# Altium integrated library Microchip Microcontroller 8-Bit PIC18.IntLib: 1070 symbols (part 33 of 43)
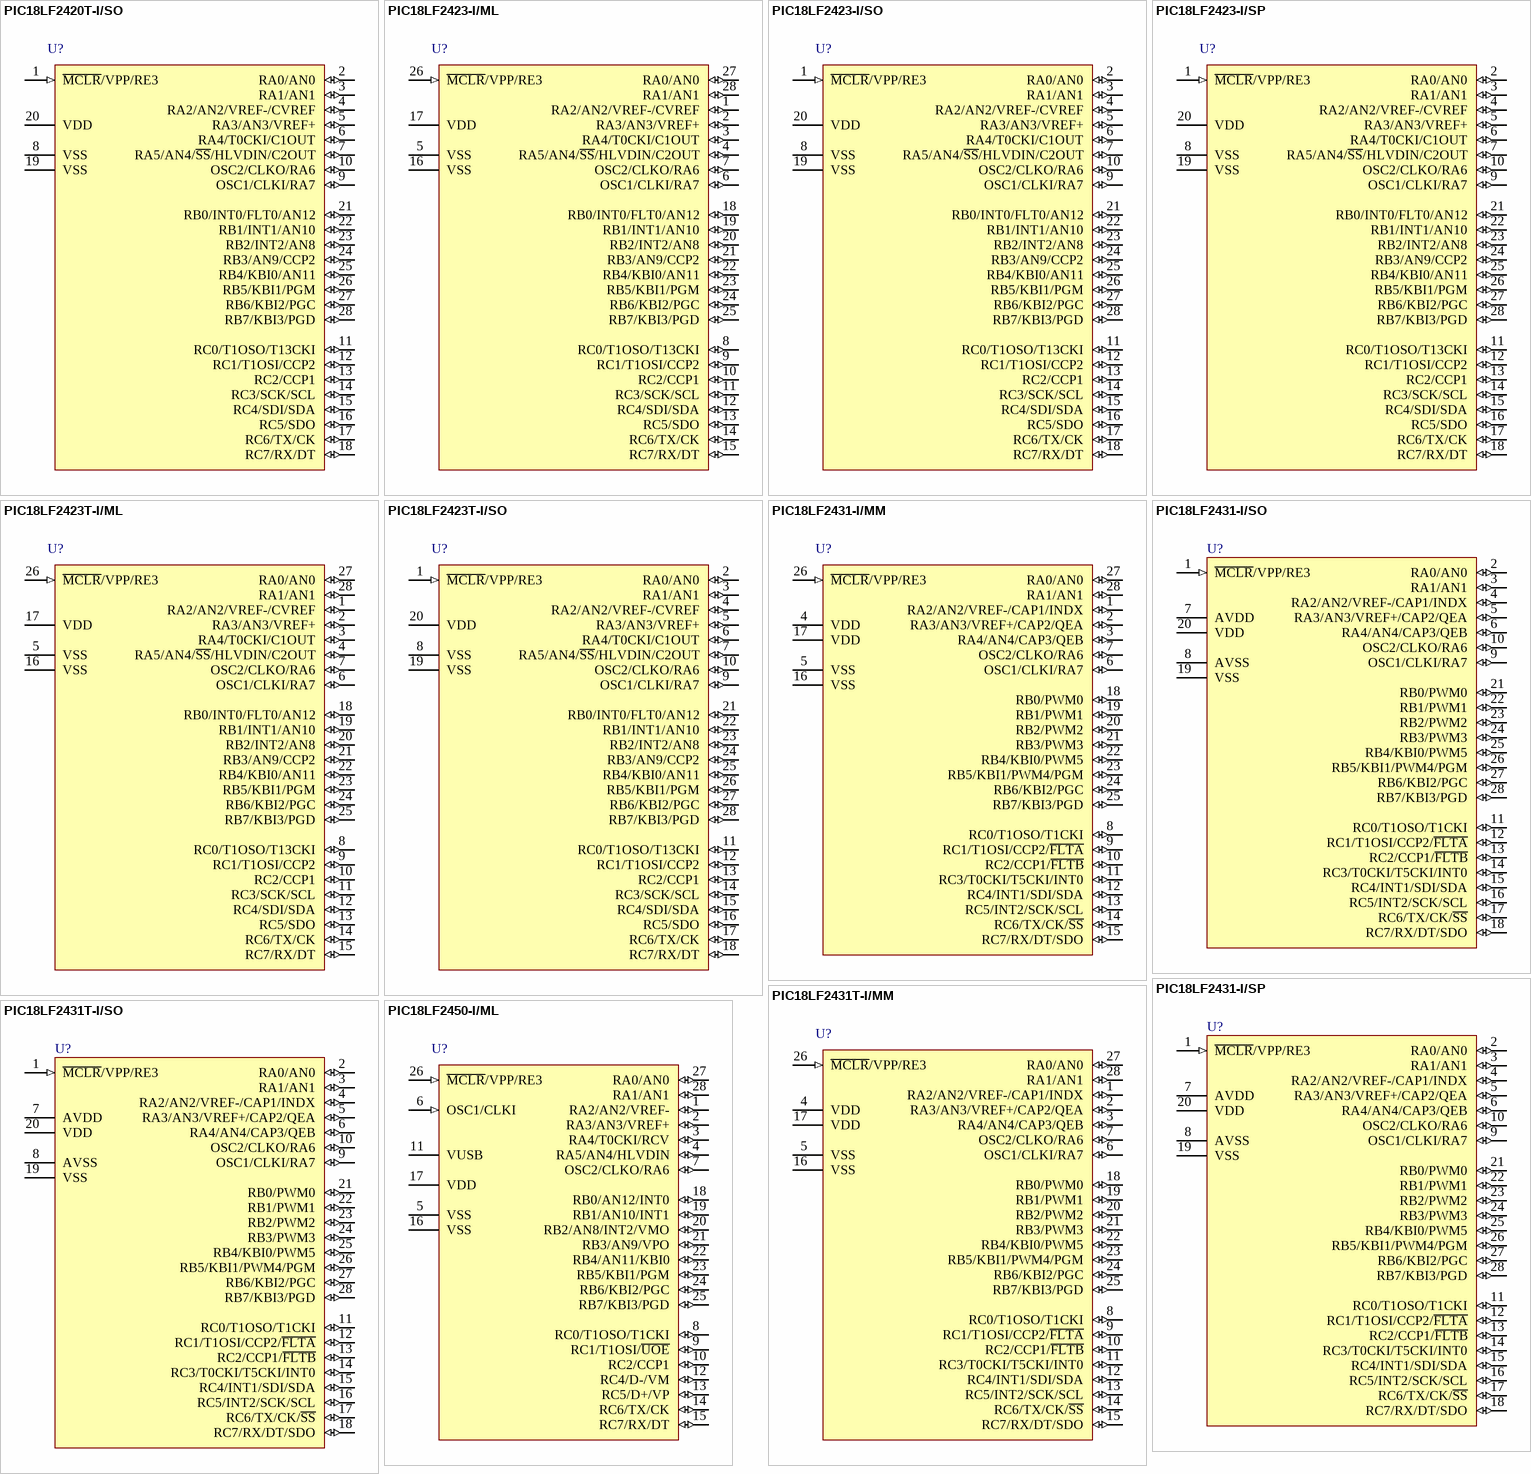
[diagram p156: symbols PIC18LF2420T-I/SO to PIC18LF2450-I/ML]

## PIC18LF2423T-I/SO
designator U?
Enhanced Flash Microcontroller with 12-Bit A/D and nanoWatt Technology, 16K Flash, 28-Pin SOIC, Industrial Temperature Range, Tape and Reel; Published: 29-Jan-2009; DatasheetVersion: revB, Jan-2007; PackageVersion: revAW, Oct-2008; PackageReference: SOIC-SO28; Publisher: Altium Limited; PackageDescription: 28-Lead Plastic Small Outline (SO) - Wide 7.50mm Body [SOIC]; Code_JEDEC: MS-013; ComponentLink1Description: Manufacturer Link; ComponentLink1URL: http://www.microchip.com; ComponentLink2Description: Datasheet; ComponentLink2URL: http://ww1.microchip.com/downloads/en/DeviceDoc/39755B.pdf; ComponentLink3Description: Packaging Specification; ComponentLink3URL: http://ww1.microchip.com/downloads/en/PackagingSpec/00049AW.pdf
footprint SOIC-SO28_N (SOIC, 28-Leads, Body 17.9x7.5mm, Pitch 1.27mm, IPC Medium Density)
footprint SOIC-SO28_L (SOIC, 28-Leads, Body 17.9x7.5mm, Pitch 1.27mm, IPC High Density)
footprint SOIC-SO28_M (SOIC, 28-Leads, Body 17.9x7.5mm, Pitch 1.27mm, IPC Low Density)
pins: 1 ~{MCLR}/VPP/RE3 (in), 2 RA0/AN0 (io), 3 RA1/AN1 (io), 4 RA2/AN2/VREF-/CVREF (io), 5 RA3/AN3/VREF+ (io), 6 RA4/T0CKI/C1OUT (io), 7 RA5/AN4/~{SS}/HLVDIN/C2OUT (io), 8 VSS (power), 9 OSC1/CLKI/RA7 (io), 10 OSC2/CLKO/RA6 (io), 11 RC0/T1OSO/T13CKI (io), 12 RC1/T1OSI/CCP2 (io), 13 RC2/CCP1 (io), 14 RC3/SCK/SCL (io), 15 RC4/SDI/SDA (io), 16 RC5/SDO (io), 17 RC6/TX/CK (io), 18 RC7/RX/DT (io), 19 VSS (power), 20 VDD (power), 21 RB0/INT0/FLT0/AN12 (io), 22 RB1/INT1/AN10 (io), 23 RB2/INT2/AN8 (io), 24 RB3/AN9/CCP2 (io), 25 RB4/KBI0/AN11 (io), 26 RB5/KBI1/PGM (io), 27 RB6/KBI2/PGC (io), 28 RB7/KBI3/PGD (io)

## PIC18LF2431-I/MM
designator U?
Enhanced Flash Microcontroller with nanoWatt Technology, High Performance PWM and A/D, 16K Flash, 28-Pin QFN, Industrial Temperature Range; Published: 29-Jan-2009; DatasheetVersion: revC, Jul-2007; PackageVersion: revAW, Oct-2008; PackageReference: QFNS-MM28; Publisher: Altium Limited; PackageDescription: 28-Lead Plastic Quad Flat, No Lead Package (MM) - 6x6x0.9 mm Body [QFN-S] with 0.40 mm Contact Length; ComponentLink1Description: Manufacturer Link; ComponentLink1URL: http://www.microchip.com; ComponentLink2Description: Datasheet; ComponentLink2URL: http://ww1.microchip.com/downloads/en/DeviceDoc/39616C.pdf; ComponentLink3Description: Packaging Specification; ComponentLink3URL: http://ww1.microchip.com/downloads/en/PackagingSpec/00049AW.pdf
footprint QFNS-MM28_N (QFN, 28-Leads, Body 6x6 mm, Pitch 0.65mm, IPC Medium Density)
footprint QFNS-MM28_L (QFN, 28-Leads, Body 6x6 mm, Pitch 0.65mm, IPC High Density)
footprint QFNS-MM28_M (QFN, 28-Leads, Body 6x6 mm, Pitch 0.65mm, IPC Low Density)
pins: 1 RA2/AN2/VREF-/CAP1/INDX (io), 2 RA3/AN3/VREF+/CAP2/QEA (io), 3 RA4/AN4/CAP3/QEB (io), 4 VDD (power), 5 VSS (power), 6 OSC1/CLKI/RA7 (io), 7 OSC2/CLKO/RA6 (io), 8 RC0/T1OSO/T1CKI (io), 9 RC1/T1OSI/CCP2/~{FLTA} (io), 10 RC2/CCP1/~{FLTB} (io), 11 RC3/T0CKI/T5CKI/INT0 (io), 12 RC4/INT1/SDI/SDA (io), 13 RC5/INT2/SCK/SCL (io), 14 RC6/TX/CK/~{SS} (io), 15 RC7/RX/DT/SDO (io), 16 VSS (power), 17 VDD (power), 18 RB0/PWM0 (io), 19 RB1/PWM1 (io), 20 RB2/PWM2 (io), 21 RB3/PWM3 (io), 22 RB4/KBI0/PWM5 (io), 23 RB5/KBI1/PWM4/PGM (io), 24 RB6/KBI2/PGC (io), 25 RB7/KBI3/PGD (io), 26 ~{MCLR}/VPP/RE3 (in), 27 RA0/AN0 (io), 28 RA1/AN1 (io)

## PIC18LF2431-I/SO
designator U?
Enhanced Flash Microcontroller with nanoWatt Technology, High Performance PWM and A/D, 16K Flash, 28-Pin SOIC, Industrial Temperature; Published: 11-Oct-2004; LatestRevisionDate: 29-Jan-2009; LatestRevisionNote: Sch. layout revised. 3D Model Removed.; DatasheetVersion: revC, Jul-2007; PackageVersion: revAW, Oct-2008; PackageReference: SOIC-SO28; Publisher: Altium Limited; PackageDescription: 28-Lead Plastic Small Outline (SO) - Wide 7.50mm Body [SOIC]; Code_JEDEC: MS-013; ComponentLink1Description: Manufacturer Link; ComponentLink1URL: http://www.microchip.com; ComponentLink2Description: Datasheet; ComponentLink2URL: http://ww1.microchip.com/downloads/en/DeviceDoc/39616C.pdf; ComponentLink3Description: Packaging Specification; ComponentLink3URL: http://ww1.microchip.com/downloads/en/PackagingSpec/00049AW.pdf
footprint SOIC-SO28_N (SOIC, 28-Leads, Body 17.9x7.5mm, Pitch 1.27mm, IPC Medium Density)
footprint SOIC-SO28_L (SOIC, 28-Leads, Body 17.9x7.5mm, Pitch 1.27mm, IPC High Density)
footprint SOIC-SO28_M (SOIC, 28-Leads, Body 17.9x7.5mm, Pitch 1.27mm, IPC Low Density)
pins: 1 ~{MCLR}/VPP/RE3 (in), 2 RA0/AN0 (io), 3 RA1/AN1 (io), 4 RA2/AN2/VREF-/CAP1/INDX (io), 5 RA3/AN3/VREF+/CAP2/QEA (io), 6 RA4/AN4/CAP3/QEB (io), 7 AVDD (power), 8 AVSS (power), 9 OSC1/CLKI/RA7 (io), 10 OSC2/CLKO/RA6 (io), 11 RC0/T1OSO/T1CKI (io), 12 RC1/T1OSI/CCP2/~{FLTA} (io), 13 RC2/CCP1/~{FLTB} (io), 14 RC3/T0CKI/T5CKI/INT0 (io), 15 RC4/INT1/SDI/SDA (io), 16 RC5/INT2/SCK/SCL (io), 17 RC6/TX/CK/~{SS} (io), 18 RC7/RX/DT/SDO (io), 19 VSS (power), 20 VDD (power), 21 RB0/PWM0 (io), 22 RB1/PWM1 (io), 23 RB2/PWM2 (io), 24 RB3/PWM3 (io), 25 RB4/KBI0/PWM5 (io), 26 RB5/KBI1/PWM4/PGM (io), 27 RB6/KBI2/PGC (io), 28 RB7/KBI3/PGD (io)

## PIC18LF2431-I/SP
designator U?
Enhanced Flash Microcontroller with nanoWatt Technology, High Performance PWM and A/D, 16K Flash, 28-Pin SPDIP, Industrial Temperature; Published: 11-Oct-2004; LatestRevisionDate: 29-Jan-2009; LatestRevisionNote: Sch. layout revised. 3D Model Removed.; DatasheetVersion: revC, Jul-2007; PackageVersion: revAW, Oct-2008; PackageReference: SPDIP300-SP28; Publisher: Altium Limited; PackageDescription: 28-Lead Skinny Plastic Dual In-Line (SP) - 300 mil Body [SPDIP]; ComponentLink1Description: Manufacturer Link; ComponentLink1URL: http://www.microchip.com; ComponentLink2Description: Datasheet; ComponentLink2URL: http://ww1.microchip.com/downloads/en/DeviceDoc/39616C.pdf; ComponentLink3Description: Packaging Specification; ComponentLink3URL: http://ww1.microchip.com/downloads/en/PackagingSpec/00049AW.pdf
footprint SPDIP300-SP28 (DIP, 28-Leads, Row Spacing 7.62mm, Pitch 2.54mm, Body 34.9x6.8mm)
pins: 1 ~{MCLR}/VPP/RE3 (in), 2 RA0/AN0 (io), 3 RA1/AN1 (io), 4 RA2/AN2/VREF-/CAP1/INDX (io), 5 RA3/AN3/VREF+/CAP2/QEA (io), 6 RA4/AN4/CAP3/QEB (io), 7 AVDD (power), 8 AVSS (power), 9 OSC1/CLKI/RA7 (io), 10 OSC2/CLKO/RA6 (io), 11 RC0/T1OSO/T1CKI (io), 12 RC1/T1OSI/CCP2/~{FLTA} (io), 13 RC2/CCP1/~{FLTB} (io), 14 RC3/T0CKI/T5CKI/INT0 (io), 15 RC4/INT1/SDI/SDA (io), 16 RC5/INT2/SCK/SCL (io), 17 RC6/TX/CK/~{SS} (io), 18 RC7/RX/DT/SDO (io), 19 VSS (power), 20 VDD (power), 21 RB0/PWM0 (io), 22 RB1/PWM1 (io), 23 RB2/PWM2 (io), 24 RB3/PWM3 (io), 25 RB4/KBI0/PWM5 (io), 26 RB5/KBI1/PWM4/PGM (io), 27 RB6/KBI2/PGC (io), 28 RB7/KBI3/PGD (io)

## PIC18LF2431T-I/MM
designator U?
Enhanced Flash Microcontroller with nanoWatt Technology, High Performance PWM and A/D, 16K Flash, 28-Pin QFN, Industrial Temperature Range, Tape and Reel; Published: 29-Jan-2009; DatasheetVersion: revC, Jul-2007; PackageVersion: revAW, Oct-2008; PackageReference: QFNS-MM28; Publisher: Altium Limited; PackageDescription: 28-Lead Plastic Quad Flat, No Lead Package (MM) - 6x6x0.9 mm Body [QFN-S] with 0.40 mm Contact Length; ComponentLink1Description: Manufacturer Link; ComponentLink1URL: http://www.microchip.com; ComponentLink2Description: Datasheet; ComponentLink2URL: http://ww1.microchip.com/downloads/en/DeviceDoc/39616C.pdf; ComponentLink3Description: Packaging Specification; ComponentLink3URL: http://ww1.microchip.com/downloads/en/PackagingSpec/00049AW.pdf
footprint QFNS-MM28_N (QFN, 28-Leads, Body 6x6 mm, Pitch 0.65mm, IPC Medium Density)
footprint QFNS-MM28_L (QFN, 28-Leads, Body 6x6 mm, Pitch 0.65mm, IPC High Density)
footprint QFNS-MM28_M (QFN, 28-Leads, Body 6x6 mm, Pitch 0.65mm, IPC Low Density)
pins: 1 RA2/AN2/VREF-/CAP1/INDX (io), 2 RA3/AN3/VREF+/CAP2/QEA (io), 3 RA4/AN4/CAP3/QEB (io), 4 VDD (power), 5 VSS (power), 6 OSC1/CLKI/RA7 (io), 7 OSC2/CLKO/RA6 (io), 8 RC0/T1OSO/T1CKI (io), 9 RC1/T1OSI/CCP2/~{FLTA} (io), 10 RC2/CCP1/~{FLTB} (io), 11 RC3/T0CKI/T5CKI/INT0 (io), 12 RC4/INT1/SDI/SDA (io), 13 RC5/INT2/SCK/SCL (io), 14 RC6/TX/CK/~{SS} (io), 15 RC7/RX/DT/SDO (io), 16 VSS (power), 17 VDD (power), 18 RB0/PWM0 (io), 19 RB1/PWM1 (io), 20 RB2/PWM2 (io), 21 RB3/PWM3 (io), 22 RB4/KBI0/PWM5 (io), 23 RB5/KBI1/PWM4/PGM (io), 24 RB6/KBI2/PGC (io), 25 RB7/KBI3/PGD (io), 26 ~{MCLR}/VPP/RE3 (in), 27 RA0/AN0 (io), 28 RA1/AN1 (io)

## PIC18LF2431T-I/SO
designator U?
Enhanced Flash Microcontroller with nanoWatt Technology, High Performance PWM and A/D, 16K Flash, 28-Pin SOIC, Industrial Temperature, Tape and Reel; Published: 11-Oct-2004; LatestRevisionDate: 29-Jan-2009; LatestRevisionNote: Sch. layout revised. 3D Model Removed.; DatasheetVersion: revC, Jul-2007; PackageVersion: revAW, Oct-2008; PackageReference: SOIC-SO28; Publisher: Altium Limited; PackageDescription: 28-Lead Plastic Small Outline (SO) - Wide 7.50mm Body [SOIC]; Code_JEDEC: MS-013; ComponentLink1Description: Manufacturer Link; ComponentLink1URL: http://www.microchip.com; ComponentLink2Description: Datasheet; ComponentLink2URL: http://ww1.microchip.com/downloads/en/DeviceDoc/39616C.pdf; ComponentLink3Description: Packaging Specification; ComponentLink3URL: http://ww1.microchip.com/downloads/en/PackagingSpec/00049AW.pdf
footprint SOIC-SO28_N (SOIC, 28-Leads, Body 17.9x7.5mm, Pitch 1.27mm, IPC Medium Density)
footprint SOIC-SO28_L (SOIC, 28-Leads, Body 17.9x7.5mm, Pitch 1.27mm, IPC High Density)
footprint SOIC-SO28_M (SOIC, 28-Leads, Body 17.9x7.5mm, Pitch 1.27mm, IPC Low Density)
pins: 1 ~{MCLR}/VPP/RE3 (in), 2 RA0/AN0 (io), 3 RA1/AN1 (io), 4 RA2/AN2/VREF-/CAP1/INDX (io), 5 RA3/AN3/VREF+/CAP2/QEA (io), 6 RA4/AN4/CAP3/QEB (io), 7 AVDD (power), 8 AVSS (power), 9 OSC1/CLKI/RA7 (io), 10 OSC2/CLKO/RA6 (io), 11 RC0/T1OSO/T1CKI (io), 12 RC1/T1OSI/CCP2/~{FLTA} (io), 13 RC2/CCP1/~{FLTB} (io), 14 RC3/T0CKI/T5CKI/INT0 (io), 15 RC4/INT1/SDI/SDA (io), 16 RC5/INT2/SCK/SCL (io), 17 RC6/TX/CK/~{SS} (io), 18 RC7/RX/DT/SDO (io), 19 VSS (power), 20 VDD (power), 21 RB0/PWM0 (io), 22 RB1/PWM1 (io), 23 RB2/PWM2 (io), 24 RB3/PWM3 (io), 25 RB4/KBI0/PWM5 (io), 26 RB5/KBI1/PWM4/PGM (io), 27 RB6/KBI2/PGC (io), 28 RB7/KBI3/PGD (io)

## PIC18LF2450-I/ML
designator U?
High Performance, 12 MIPS, Enhanced Flash, USB Microcontroller with nanoWatt Technology, 16K Flash, 28-Pin QFN, Industrial Temperature Range; Published: 29-Jan-2009; DatasheetVersion: revD, Mar-2008; PackageVersion: revAW, Oct-2008; PackageReference: QFN-ML28; Publisher: Altium Limited; PackageDescription: 28-Lead Plastic Quad Flat, No Lead Package (ML) - 6x6 mm Body [QFN] with 0.55 mm Contact Length; Code_JEDEC: MO-220; Code_IPC: QFN65P600X600-28V; ComponentLink1Description: Manufacturer Link; ComponentLink1URL: http://www.microchip.com; ComponentLink2Description: Datasheet; ComponentLink2URL: http://ww1.microchip.com/downloads/en/DeviceDoc/39760d.pdf; ComponentLink3Description: Packaging Specification; ComponentLink3URL: http://ww1.microchip.com/downloads/en/PackagingSpec/00049AW.pdf
footprint QFN-ML28_N (QFN, 28-Leads, Body 6x6 mm, Pitch 0.65mm, IPC Medium Density)
footprint QFN-ML28_L (QFN, 28-Leads, Body 6x6 mm, Pitch 0.65mm, IPC High Density)
footprint QFN-ML28_M (QFN, 28-Leads, Body 6x6 mm, Pitch 0.65mm, IPC Low Density)
pins: 1 RA2/AN2/VREF- (io), 2 RA3/AN3/VREF+ (io), 3 RA4/T0CKI/RCV (io), 4 RA5/AN4/HLVDIN (io), 5 VSS (power), 6 OSC1/CLKI (in), 7 OSC2/CLKO/RA6 (io), 8 RC0/T1OSO/T1CKI (io), 9 RC1/T1OSI/~{UOE} (io), 10 RC2/CCP1 (io), 11 VUSB (power), 12 RC4/D-/VM (io), 13 RC5/D+/VP (io), 14 RC6/TX/CK (io), 15 RC7/RX/DT (io), 16 VSS (power), 17 VDD (power), 18 RB0/AN12/INT0 (io), 19 RB1/AN10/INT1 (io), 20 RB2/AN8/INT2/VMO (io), 21 RB3/AN9/VPO (io), 22 RB4/AN11/KBI0 (io), 23 RB5/KBI1/PGM (io), 24 RB6/KBI2/PGC (io), 25 RB7/KBI3/PGD (io), 26 ~{MCLR}/VPP/RE3 (in), 27 RA0/AN0 (io), 28 RA1/AN1 (io)

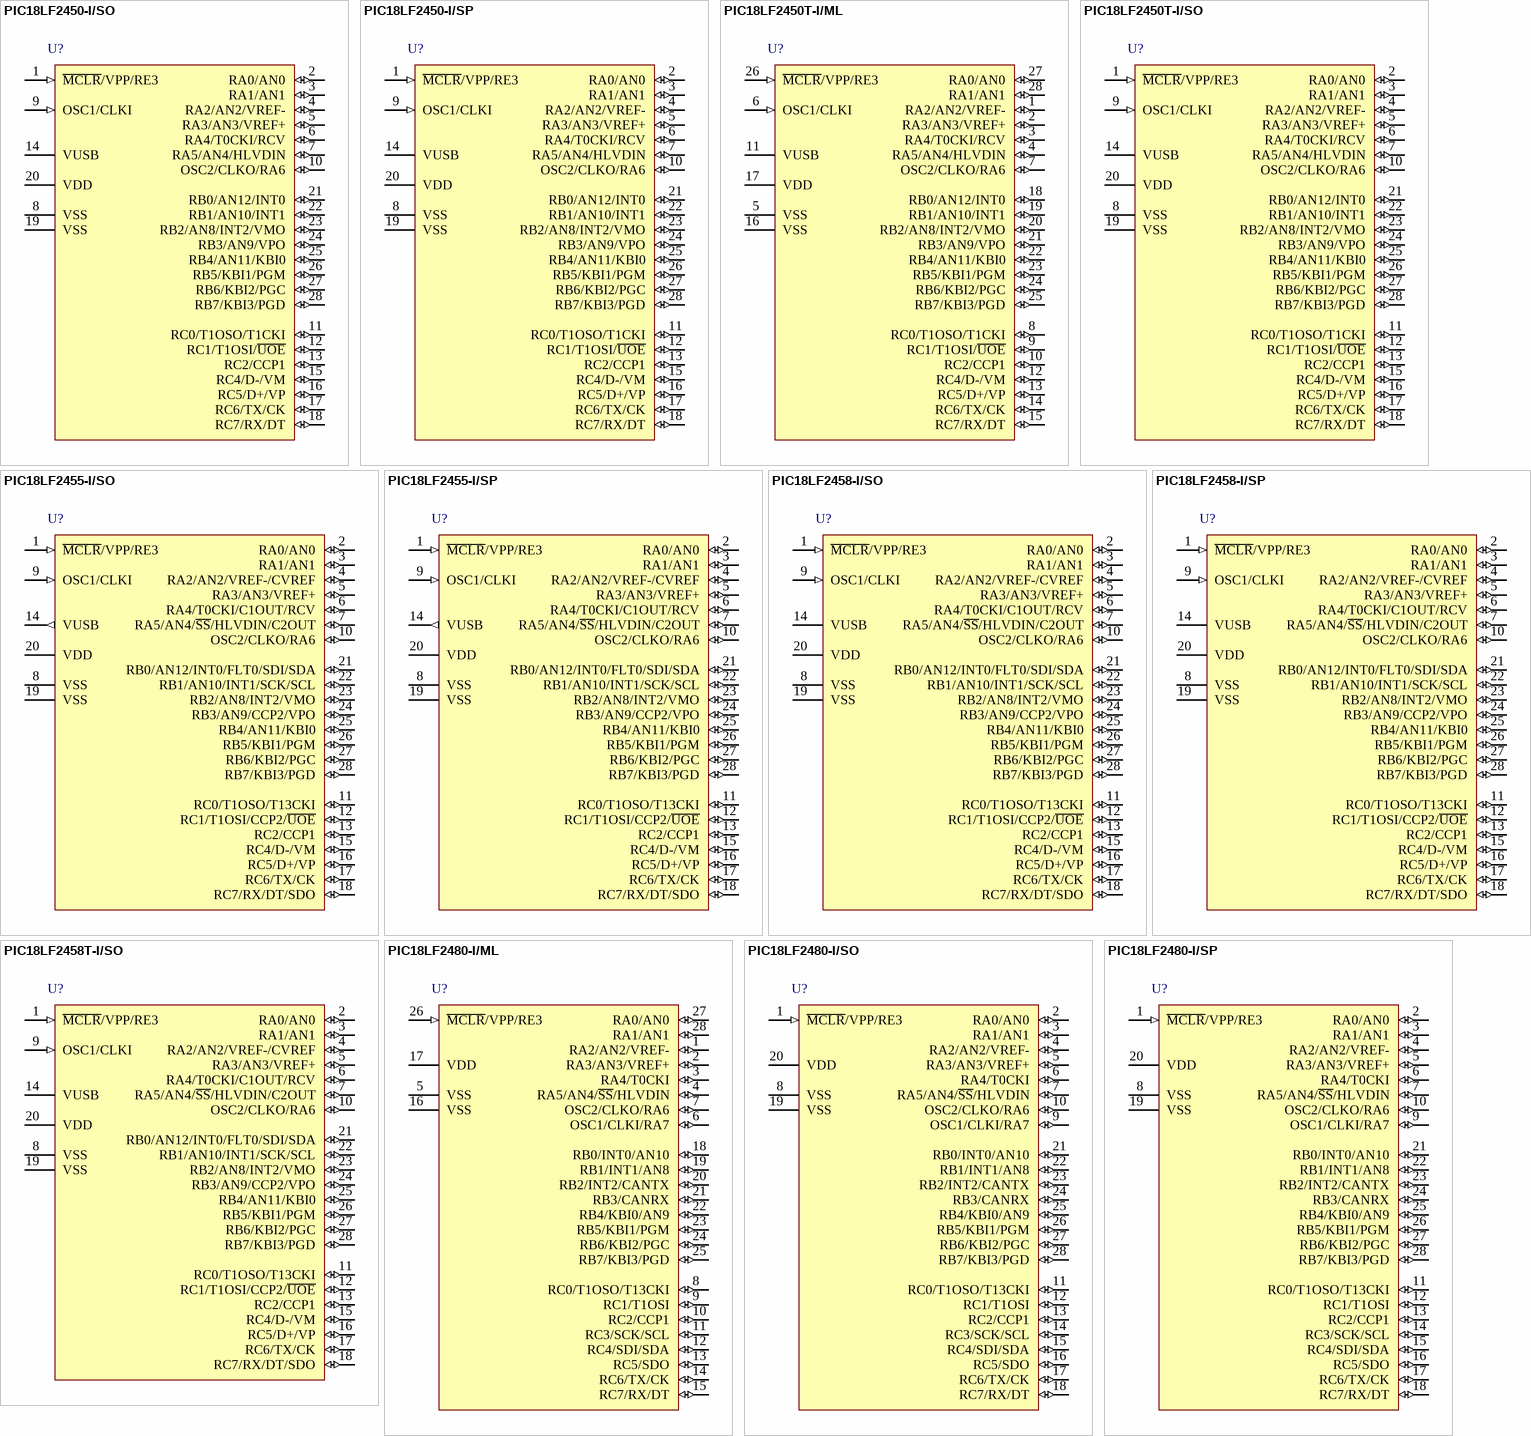
[diagram p96: symbols PIC18LF2450-I/SO to PIC18LF2480-I/SP]

## PIC18LF2450-I/SO
designator U?
High Performance, 12 MIPS, Enhanced Flash, USB Microcontroller with nanoWatt Technology, 16K Flash, 28-Pin SOIC, Industrial Temperature Range; Published: 29-Jan-2009; DatasheetVersion: revD, Mar-2008; PackageVersion: revAW, Oct-2008; PackageReference: SOIC-SO28; Publisher: Altium Limited; PackageDescription: 28-Lead Plastic Small Outline (SO) - Wide 7.50mm Body [SOIC]; Code_JEDEC: MS-013; ComponentLink1Description: Manufacturer Link; ComponentLink1URL: http://www.microchip.com; ComponentLink2Description: Datasheet; ComponentLink2URL: http://ww1.microchip.com/downloads/en/DeviceDoc/39760d.pdf; ComponentLink3Description: Packaging Specification; ComponentLink3URL: http://ww1.microchip.com/downloads/en/PackagingSpec/00049AW.pdf
footprint SOIC-SO28_N (SOIC, 28-Leads, Body 17.9x7.5mm, Pitch 1.27mm, IPC Medium Density)
footprint SOIC-SO28_L (SOIC, 28-Leads, Body 17.9x7.5mm, Pitch 1.27mm, IPC High Density)
footprint SOIC-SO28_M (SOIC, 28-Leads, Body 17.9x7.5mm, Pitch 1.27mm, IPC Low Density)
pins: 1 ~{MCLR}/VPP/RE3 (in), 2 RA0/AN0 (io), 3 RA1/AN1 (io), 4 RA2/AN2/VREF- (io), 5 RA3/AN3/VREF+ (io), 6 RA4/T0CKI/RCV (io), 7 RA5/AN4/HLVDIN (io), 8 VSS (power), 9 OSC1/CLKI (in), 10 OSC2/CLKO/RA6 (io), 11 RC0/T1OSO/T1CKI (io), 12 RC1/T1OSI/~{UOE} (io), 13 RC2/CCP1 (io), 14 VUSB (power), 15 RC4/D-/VM (io), 16 RC5/D+/VP (io), 17 RC6/TX/CK (io), 18 RC7/RX/DT (io), 19 VSS (power), 20 VDD (power), 21 RB0/AN12/INT0 (io), 22 RB1/AN10/INT1 (io), 23 RB2/AN8/INT2/VMO (io), 24 RB3/AN9/VPO (io), 25 RB4/AN11/KBI0 (io), 26 RB5/KBI1/PGM (io), 27 RB6/KBI2/PGC (io), 28 RB7/KBI3/PGD (io)

## PIC18LF2450-I/SP
designator U?
High Performance, 12 MIPS, Enhanced Flash, USB Microcontroller with nanoWatt Technology, 16K Flash, 28-Pin SPDIP, Industrial Temperature Range; Published: 29-Jan-2009; DatasheetVersion: revD, Mar-2008; PackageVersion: revAW, Oct-2008; PackageReference: SPDIP300-SP28; Publisher: Altium Limited; PackageDescription: 28-Lead Skinny Plastic Dual In-Line (SP) - 300 mil Body [SPDIP]; ComponentLink1Description: Manufacturer Link; ComponentLink1URL: http://www.microchip.com; ComponentLink2Description: Datasheet; ComponentLink2URL: http://ww1.microchip.com/downloads/en/DeviceDoc/39760d.pdf; ComponentLink3Description: Packaging Specification; ComponentLink3URL: http://ww1.microchip.com/downloads/en/PackagingSpec/00049AW.pdf
footprint SPDIP300-SP28 (DIP, 28-Leads, Row Spacing 7.62mm, Pitch 2.54mm, Body 34.9x6.8mm)
pins: 1 ~{MCLR}/VPP/RE3 (in), 2 RA0/AN0 (io), 3 RA1/AN1 (io), 4 RA2/AN2/VREF- (io), 5 RA3/AN3/VREF+ (io), 6 RA4/T0CKI/RCV (io), 7 RA5/AN4/HLVDIN (io), 8 VSS (power), 9 OSC1/CLKI (in), 10 OSC2/CLKO/RA6 (io), 11 RC0/T1OSO/T1CKI (io), 12 RC1/T1OSI/~{UOE} (io), 13 RC2/CCP1 (io), 14 VUSB (power), 15 RC4/D-/VM (io), 16 RC5/D+/VP (io), 17 RC6/TX/CK (io), 18 RC7/RX/DT (io), 19 VSS (power), 20 VDD (power), 21 RB0/AN12/INT0 (io), 22 RB1/AN10/INT1 (io), 23 RB2/AN8/INT2/VMO (io), 24 RB3/AN9/VPO (io), 25 RB4/AN11/KBI0 (io), 26 RB5/KBI1/PGM (io), 27 RB6/KBI2/PGC (io), 28 RB7/KBI3/PGD (io)

## PIC18LF2450T-I/ML
designator U?
High Performance, 12 MIPS, Enhanced Flash, USB Microcontroller with nanoWatt Technology, 16K Flash, 28-Pin QFN, Industrial Temperature Range, Tape and Reel; Published: 29-Jan-2009; DatasheetVersion: revD, Mar-2008; PackageVersion: revAW, Oct-2008; PackageReference: QFN-ML28; Publisher: Altium Limited; PackageDescription: 28-Lead Plastic Quad Flat, No Lead Package (ML) - 6x6 mm Body [QFN] with 0.55 mm Contact Length; Code_JEDEC: MO-220; Code_IPC: QFN65P600X600-28V; ComponentLink1Description: Manufacturer Link; ComponentLink1URL: http://www.microchip.com; ComponentLink2Description: Datasheet; ComponentLink2URL: http://ww1.microchip.com/downloads/en/DeviceDoc/39760d.pdf; ComponentLink3Description: Packaging Specification; ComponentLink3URL: http://ww1.microchip.com/downloads/en/PackagingSpec/00049AW.pdf
footprint QFN-ML28_N (QFN, 28-Leads, Body 6x6 mm, Pitch 0.65mm, IPC Medium Density)
footprint QFN-ML28_L (QFN, 28-Leads, Body 6x6 mm, Pitch 0.65mm, IPC High Density)
footprint QFN-ML28_M (QFN, 28-Leads, Body 6x6 mm, Pitch 0.65mm, IPC Low Density)
pins: 1 RA2/AN2/VREF- (io), 2 RA3/AN3/VREF+ (io), 3 RA4/T0CKI/RCV (io), 4 RA5/AN4/HLVDIN (io), 5 VSS (power), 6 OSC1/CLKI (in), 7 OSC2/CLKO/RA6 (io), 8 RC0/T1OSO/T1CKI (io), 9 RC1/T1OSI/~{UOE} (io), 10 RC2/CCP1 (io), 11 VUSB (power), 12 RC4/D-/VM (io), 13 RC5/D+/VP (io), 14 RC6/TX/CK (io), 15 RC7/RX/DT (io), 16 VSS (power), 17 VDD (power), 18 RB0/AN12/INT0 (io), 19 RB1/AN10/INT1 (io), 20 RB2/AN8/INT2/VMO (io), 21 RB3/AN9/VPO (io), 22 RB4/AN11/KBI0 (io), 23 RB5/KBI1/PGM (io), 24 RB6/KBI2/PGC (io), 25 RB7/KBI3/PGD (io), 26 ~{MCLR}/VPP/RE3 (in), 27 RA0/AN0 (io), 28 RA1/AN1 (io)

## PIC18LF2450T-I/SO
designator U?
High Performance, 12 MIPS, Enhanced Flash, USB Microcontroller with nanoWatt Technology, 16K Flash, 28-Pin SOIC, Industrial Temperature Range, Tape and Reel; Published: 29-Jan-2009; DatasheetVersion: revD, Mar-2008; PackageVersion: revAW, Oct-2008; PackageReference: SOIC-SO28; Publisher: Altium Limited; PackageDescription: 28-Lead Plastic Small Outline (SO) - Wide 7.50mm Body [SOIC]; Code_JEDEC: MS-013; ComponentLink1Description: Manufacturer Link; ComponentLink1URL: http://www.microchip.com; ComponentLink2Description: Datasheet; ComponentLink2URL: http://ww1.microchip.com/downloads/en/DeviceDoc/39760d.pdf; ComponentLink3Description: Packaging Specification; ComponentLink3URL: http://ww1.microchip.com/downloads/en/PackagingSpec/00049AW.pdf
footprint SOIC-SO28_N (SOIC, 28-Leads, Body 17.9x7.5mm, Pitch 1.27mm, IPC Medium Density)
footprint SOIC-SO28_L (SOIC, 28-Leads, Body 17.9x7.5mm, Pitch 1.27mm, IPC High Density)
footprint SOIC-SO28_M (SOIC, 28-Leads, Body 17.9x7.5mm, Pitch 1.27mm, IPC Low Density)
pins: 1 ~{MCLR}/VPP/RE3 (in), 2 RA0/AN0 (io), 3 RA1/AN1 (io), 4 RA2/AN2/VREF- (io), 5 RA3/AN3/VREF+ (io), 6 RA4/T0CKI/RCV (io), 7 RA5/AN4/HLVDIN (io), 8 VSS (power), 9 OSC1/CLKI (in), 10 OSC2/CLKO/RA6 (io), 11 RC0/T1OSO/T1CKI (io), 12 RC1/T1OSI/~{UOE} (io), 13 RC2/CCP1 (io), 14 VUSB (power), 15 RC4/D-/VM (io), 16 RC5/D+/VP (io), 17 RC6/TX/CK (io), 18 RC7/RX/DT (io), 19 VSS (power), 20 VDD (power), 21 RB0/AN12/INT0 (io), 22 RB1/AN10/INT1 (io), 23 RB2/AN8/INT2/VMO (io), 24 RB3/AN9/VPO (io), 25 RB4/AN11/KBI0 (io), 26 RB5/KBI1/PGM (io), 27 RB6/KBI2/PGC (io), 28 RB7/KBI3/PGD (io)

## PIC18LF2455-I/SO
designator U?
High Performance, Enhanced Flash, USB Microcontroller with nanoWatt Technology, 24K Flash, 28-Pin SOIC, Industrial Temperature Range; Published: 29-Jan-2009; DatasheetVersion: revD, Jan-2007; PackageVersion: revAW, Oct-2008; PackageReference: SOIC-SO28; Publisher: Altium Limited; PackageDescription: 28-Lead Plastic Small Outline (SO) - Wide 7.50mm Body [SOIC]; Code_JEDEC: MS-013; ComponentLink1Description: Manufacturer Link; ComponentLink1URL: http://www.microchip.com; ComponentLink2Description: Datasheet; ComponentLink2URL: http://ww1.microchip.com/downloads/en/DeviceDoc/39632D.pdf; ComponentLink3Description: Packaging Specification; ComponentLink3URL: http://ww1.microchip.com/downloads/en/PackagingSpec/00049AW.pdf
footprint SOIC-SO28_N (SOIC, 28-Leads, Body 17.9x7.5mm, Pitch 1.27mm, IPC Medium Density)
footprint SOIC-SO28_L (SOIC, 28-Leads, Body 17.9x7.5mm, Pitch 1.27mm, IPC High Density)
footprint SOIC-SO28_M (SOIC, 28-Leads, Body 17.9x7.5mm, Pitch 1.27mm, IPC Low Density)
pins: 1 ~{MCLR}/VPP/RE3 (in), 2 RA0/AN0 (io), 3 RA1/AN1 (io), 4 RA2/AN2/VREF-/CVREF (io), 5 RA3/AN3/VREF+ (io), 6 RA4/T0CKI/C1OUT/RCV (io), 7 RA5/AN4/~{SS}/HLVDIN/C2OUT (io), 8 VSS (power), 9 OSC1/CLKI (in), 10 OSC2/CLKO/RA6 (io), 11 RC0/T1OSO/T13CKI (io), 12 RC1/T1OSI/CCP2/~{UOE} (io), 13 RC2/CCP1 (io), 14 VUSB (out), 15 RC4/D-/VM (io), 16 RC5/D+/VP (io), 17 RC6/TX/CK (io), 18 RC7/RX/DT/SDO (io), 19 VSS (power), 20 VDD (power), 21 RB0/AN12/INT0/FLT0/SDI/SDA (io), 22 RB1/AN10/INT1/SCK/SCL (io), 23 RB2/AN8/INT2/VMO (io), 24 RB3/AN9/CCP2/VPO (io), 25 RB4/AN11/KBI0 (io), 26 RB5/KBI1/PGM (io), 27 RB6/KBI2/PGC (io), 28 RB7/KBI3/PGD (io)

## PIC18LF2455-I/SP
designator U?
High Performance, Enhanced Flash, USB Microcontroller with nanoWatt Technology, 24K Flash, 28-Pin SPDIP, Industrial Temperature Range; Published: 29-Jan-2009; DatasheetVersion: revD, Jan-2007; PackageVersion: revAW, Oct-2008; PackageReference: SPDIP300-SP28; Publisher: Altium Limited; PackageDescription: 28-Lead Skinny Plastic Dual In-Line (SP) - 300 mil Body [SPDIP]; ComponentLink1Description: Manufacturer Link; ComponentLink1URL: http://www.microchip.com; ComponentLink2Description: Datasheet; ComponentLink2URL: http://ww1.microchip.com/downloads/en/DeviceDoc/39632D.pdf; ComponentLink3Description: Packaging Specification; ComponentLink3URL: http://ww1.microchip.com/downloads/en/PackagingSpec/00049AW.pdf
footprint SPDIP300-SP28 (DIP, 28-Leads, Row Spacing 7.62mm, Pitch 2.54mm, Body 34.9x6.8mm)
pins: 1 ~{MCLR}/VPP/RE3 (in), 2 RA0/AN0 (io), 3 RA1/AN1 (io), 4 RA2/AN2/VREF-/CVREF (io), 5 RA3/AN3/VREF+ (io), 6 RA4/T0CKI/C1OUT/RCV (io), 7 RA5/AN4/~{SS}/HLVDIN/C2OUT (io), 8 VSS (power), 9 OSC1/CLKI (in), 10 OSC2/CLKO/RA6 (io), 11 RC0/T1OSO/T13CKI (io), 12 RC1/T1OSI/CCP2/~{UOE} (io), 13 RC2/CCP1 (io), 14 VUSB (out), 15 RC4/D-/VM (io), 16 RC5/D+/VP (io), 17 RC6/TX/CK (io), 18 RC7/RX/DT/SDO (io), 19 VSS (power), 20 VDD (power), 21 RB0/AN12/INT0/FLT0/SDI/SDA (io), 22 RB1/AN10/INT1/SCK/SCL (io), 23 RB2/AN8/INT2/VMO (io), 24 RB3/AN9/CCP2/VPO (io), 25 RB4/AN11/KBI0 (io), 26 RB5/KBI1/PGM (io), 27 RB6/KBI2/PGC (io), 28 RB7/KBI3/PGD (io)

## PIC18LF2458-I/SO
designator U?
High Performance, Enhanced Flash, USB Microcontroller with 12-Bit A/D and nanoWatt Technology, 24K Flash, 28-Pin SOIC, Industrial Temperature Range; Published: 29-Jan-2009; DatasheetVersion: revB, Jul-2007; PackageVersion: revAW, Oct-2008; PackageReference: SOIC-SO28; Publisher: Altium Limited; PackageDescription: 28-Lead Plastic Small Outline (SO) - Wide 7.50mm Body [SOIC]; Code_JEDEC: MS-013; ComponentLink1Description: Manufacturer Link; ComponentLink1URL: http://www.microchip.com; ComponentLink2Description: Datasheet; ComponentLink2URL: http://ww1.microchip.com/downloads/en/DeviceDoc/39887b.pdf; ComponentLink3Description: Packaging Specification; ComponentLink3URL: http://ww1.microchip.com/downloads/en/PackagingSpec/00049AW.pdf
footprint SOIC-SO28_N (SOIC, 28-Leads, Body 17.9x7.5mm, Pitch 1.27mm, IPC Medium Density)
footprint SOIC-SO28_L (SOIC, 28-Leads, Body 17.9x7.5mm, Pitch 1.27mm, IPC High Density)
footprint SOIC-SO28_M (SOIC, 28-Leads, Body 17.9x7.5mm, Pitch 1.27mm, IPC Low Density)
pins: 1 ~{MCLR}/VPP/RE3 (in), 2 RA0/AN0 (io), 3 RA1/AN1 (io), 4 RA2/AN2/VREF-/CVREF (io), 5 RA3/AN3/VREF+ (io), 6 RA4/T0CKI/C1OUT/RCV (io), 7 RA5/AN4/~{SS}/HLVDIN/C2OUT (io), 8 VSS (power), 9 OSC1/CLKI (in), 10 OSC2/CLKO/RA6 (io), 11 RC0/T1OSO/T13CKI (io), 12 RC1/T1OSI/CCP2/~{UOE} (io), 13 RC2/CCP1 (io), 14 VUSB (power), 15 RC4/D-/VM (io), 16 RC5/D+/VP (io), 17 RC6/TX/CK (io), 18 RC7/RX/DT/SDO (io), 19 VSS (power), 20 VDD (power), 21 RB0/AN12/INT0/FLT0/SDI/SDA (io), 22 RB1/AN10/INT1/SCK/SCL (io), 23 RB2/AN8/INT2/VMO (io), 24 RB3/AN9/CCP2/VPO (io), 25 RB4/AN11/KBI0 (io), 26 RB5/KBI1/PGM (io), 27 RB6/KBI2/PGC (io), 28 RB7/KBI3/PGD (io)

## PIC18LF2458-I/SP
designator U?
High Performance, Enhanced Flash, USB Microcontroller with 12-Bit A/D and nanoWatt Technology, 24K Flash, 28-Pin SPDIP, Industrial Temperature Range; Published: 29-Jan-2009; DatasheetVersion: revB, Jul-2007; PackageVersion: revAW, Oct-2008; PackageReference: SPDIP300-SP28; Publisher: Altium Limited; PackageDescription: 28-Lead Skinny Plastic Dual In-Line (SP) - 300 mil Body [SPDIP]; ComponentLink1Description: Manufacturer Link; ComponentLink1URL: http://www.microchip.com; ComponentLink2Description: Datasheet; ComponentLink2URL: http://ww1.microchip.com/downloads/en/DeviceDoc/39887b.pdf; ComponentLink3Description: Packaging Specification; ComponentLink3URL: http://ww1.microchip.com/downloads/en/PackagingSpec/00049AW.pdf
footprint SPDIP300-SP28 (DIP, 28-Leads, Row Spacing 7.62mm, Pitch 2.54mm, Body 34.9x6.8mm)
pins: 1 ~{MCLR}/VPP/RE3 (in), 2 RA0/AN0 (io), 3 RA1/AN1 (io), 4 RA2/AN2/VREF-/CVREF (io), 5 RA3/AN3/VREF+ (io), 6 RA4/T0CKI/C1OUT/RCV (io), 7 RA5/AN4/~{SS}/HLVDIN/C2OUT (io), 8 VSS (power), 9 OSC1/CLKI (in), 10 OSC2/CLKO/RA6 (io), 11 RC0/T1OSO/T13CKI (io), 12 RC1/T1OSI/CCP2/~{UOE} (io), 13 RC2/CCP1 (io), 14 VUSB (power), 15 RC4/D-/VM (io), 16 RC5/D+/VP (io), 17 RC6/TX/CK (io), 18 RC7/RX/DT/SDO (io), 19 VSS (power), 20 VDD (power), 21 RB0/AN12/INT0/FLT0/SDI/SDA (io), 22 RB1/AN10/INT1/SCK/SCL (io), 23 RB2/AN8/INT2/VMO (io), 24 RB3/AN9/CCP2/VPO (io), 25 RB4/AN11/KBI0 (io), 26 RB5/KBI1/PGM (io), 27 RB6/KBI2/PGC (io), 28 RB7/KBI3/PGD (io)

## PIC18LF2458T-I/SO
designator U?
High Performance, Enhanced Flash, USB Microcontroller with 12-Bit A/D and nanoWatt Technology, 24K Flash, 28-Pin SOIC, Industrial Temperature Range, Tape and Reel; Published: 29-Jan-2009; DatasheetVersion: revB, Jul-2007; PackageVersion: revAW, Oct-2008; PackageReference: SOIC-SO28; Publisher: Altium Limited; PackageDescription: 28-Lead Plastic Small Outline (SO) - Wide 7.50mm Body [SOIC]; Code_JEDEC: MS-013; ComponentLink1Description: Manufacturer Link; ComponentLink1URL: http://www.microchip.com; ComponentLink2Description: Datasheet; ComponentLink2URL: http://ww1.microchip.com/downloads/en/DeviceDoc/39887b.pdf; ComponentLink3Description: Packaging Specification; ComponentLink3URL: http://ww1.microchip.com/downloads/en/PackagingSpec/00049AW.pdf
footprint SOIC-SO28_N (SOIC, 28-Leads, Body 17.9x7.5mm, Pitch 1.27mm, IPC Medium Density)
footprint SOIC-SO28_L (SOIC, 28-Leads, Body 17.9x7.5mm, Pitch 1.27mm, IPC High Density)
footprint SOIC-SO28_M (SOIC, 28-Leads, Body 17.9x7.5mm, Pitch 1.27mm, IPC Low Density)
pins: 1 ~{MCLR}/VPP/RE3 (in), 2 RA0/AN0 (io), 3 RA1/AN1 (io), 4 RA2/AN2/VREF-/CVREF (io), 5 RA3/AN3/VREF+ (io), 6 RA4/T0CKI/C1OUT/RCV (io), 7 RA5/AN4/~{SS}/HLVDIN/C2OUT (io), 8 VSS (power), 9 OSC1/CLKI (in), 10 OSC2/CLKO/RA6 (io), 11 RC0/T1OSO/T13CKI (io), 12 RC1/T1OSI/CCP2/~{UOE} (io), 13 RC2/CCP1 (io), 14 VUSB (power), 15 RC4/D-/VM (io), 16 RC5/D+/VP (io), 17 RC6/TX/CK (io), 18 RC7/RX/DT/SDO (io), 19 VSS (power), 20 VDD (power), 21 RB0/AN12/INT0/FLT0/SDI/SDA (io), 22 RB1/AN10/INT1/SCK/SCL (io), 23 RB2/AN8/INT2/VMO (io), 24 RB3/AN9/CCP2/VPO (io), 25 RB4/AN11/KBI0 (io), 26 RB5/KBI1/PGM (io), 27 RB6/KBI2/PGC (io), 28 RB7/KBI3/PGD (io)

## PIC18LF2480-I/ML
designator U?
Enhanced Flash Microcontroller with ECAN Technology, 10-Bit A/D and nanoWatt Technology, 16K Flash, 28-Pin QFN, Industrial Temperature Range; Published: 29-Jan-2009; DatasheetVersion: revC, Apr-2007; PackageVersion: revAW, Oct-2008; PackageReference: QFN-ML28; Publisher: Altium Limited; PackageDescription: 28-Lead Plastic Quad Flat, No Lead Package (ML) - 6x6 mm Body [QFN] with 0.55 mm Contact Length; Code_JEDEC: MO-220; Code_IPC: QFN65P600X600-28V; ComponentLink1Description: Manufacturer Link; ComponentLink1URL: http://www.microchip.com; ComponentLink2Description: Datasheet; ComponentLink2URL: http://ww1.microchip.com/downloads/en/DeviceDoc/39637c.pdf; ComponentLink3Description: Packaging Specification; ComponentLink3URL: http://ww1.microchip.com/downloads/en/PackagingSpec/00049AW.pdf
footprint QFN-ML28_N (QFN, 28-Leads, Body 6x6 mm, Pitch 0.65mm, IPC Medium Density)
footprint QFN-ML28_L (QFN, 28-Leads, Body 6x6 mm, Pitch 0.65mm, IPC High Density)
footprint QFN-ML28_M (QFN, 28-Leads, Body 6x6 mm, Pitch 0.65mm, IPC Low Density)
pins: 1 RA2/AN2/VREF- (io), 2 RA3/AN3/VREF+ (io), 3 RA4/T0CKI (io), 4 RA5/AN4/~{SS}/HLVDIN (io), 5 VSS (power), 6 OSC1/CLKI/RA7 (io), 7 OSC2/CLKO/RA6 (io), 8 RC0/T1OSO/T13CKI (io), 9 RC1/T1OSI (io), 10 RC2/CCP1 (io), 11 RC3/SCK/SCL (io), 12 RC4/SDI/SDA (io), 13 RC5/SDO (io), 14 RC6/TX/CK (io), 15 RC7/RX/DT (io), 16 VSS (power), 17 VDD (power), 18 RB0/INT0/AN10 (io), 19 RB1/INT1/AN8 (io), 20 RB2/INT2/CANTX (io), 21 RB3/CANRX (io), 22 RB4/KBI0/AN9 (io), 23 RB5/KBI1/PGM (io), 24 RB6/KBI2/PGC (io), 25 RB7/KBI3/PGD (io), 26 ~{MCLR}/VPP/RE3 (in), 27 RA0/AN0 (io), 28 RA1/AN1 (io)

## PIC18LF2480-I/SO
designator U?
Enhanced Flash Microcontroller with ECAN Technology, 10-Bit A/D and nanoWatt Technology, 16K Flash, 28-Pin SOIC, Industrial Temperature Range; Published: 29-Jan-2009; DatasheetVersion: revC, Apr-2007; PackageVersion: revAW, Oct-2008; PackageReference: SOIC-SO28; Publisher: Altium Limited; PackageDescription: 28-Lead Plastic Small Outline (SO) - Wide 7.50mm Body [SOIC]; Code_JEDEC: MS-013; ComponentLink1Description: Manufacturer Link; ComponentLink1URL: http://www.microchip.com; ComponentLink2Description: Datasheet; ComponentLink2URL: http://ww1.microchip.com/downloads/en/DeviceDoc/39637c.pdf; ComponentLink3Description: Packaging Specification; ComponentLink3URL: http://ww1.microchip.com/downloads/en/PackagingSpec/00049AW.pdf
footprint SOIC-SO28_N (SOIC, 28-Leads, Body 17.9x7.5mm, Pitch 1.27mm, IPC Medium Density)
footprint SOIC-SO28_L (SOIC, 28-Leads, Body 17.9x7.5mm, Pitch 1.27mm, IPC High Density)
footprint SOIC-SO28_M (SOIC, 28-Leads, Body 17.9x7.5mm, Pitch 1.27mm, IPC Low Density)
pins: 1 ~{MCLR}/VPP/RE3 (in), 2 RA0/AN0 (io), 3 RA1/AN1 (io), 4 RA2/AN2/VREF- (io), 5 RA3/AN3/VREF+ (io), 6 RA4/T0CKI (io), 7 RA5/AN4/~{SS}/HLVDIN (io), 8 VSS (power), 9 OSC1/CLKI/RA7 (io), 10 OSC2/CLKO/RA6 (io), 11 RC0/T1OSO/T13CKI (io), 12 RC1/T1OSI (io), 13 RC2/CCP1 (io), 14 RC3/SCK/SCL (io), 15 RC4/SDI/SDA (io), 16 RC5/SDO (io), 17 RC6/TX/CK (io), 18 RC7/RX/DT (io), 19 VSS (power), 20 VDD (power), 21 RB0/INT0/AN10 (io), 22 RB1/INT1/AN8 (io), 23 RB2/INT2/CANTX (io), 24 RB3/CANRX (io), 25 RB4/KBI0/AN9 (io), 26 RB5/KBI1/PGM (io), 27 RB6/KBI2/PGC (io), 28 RB7/KBI3/PGD (io)

## PIC18LF2480-I/SP
designator U?
Enhanced Flash Microcontroller with ECAN Technology, 10-Bit A/D and nanoWatt Technology, 16K Flash, 28-Pin SPDIP, Industrial Temperature Range; Published: 29-Jan-2009; DatasheetVersion: revC, Apr-2007; PackageVersion: revAW, Oct-2008; PackageReference: SPDIP300-SP28; Publisher: Altium Limited; PackageDescription: 28-Lead Skinny Plastic Dual In-Line (SP) - 300 mil Body [SPDIP]; ComponentLink1Description: Manufacturer Link; ComponentLink1URL: http://www.microchip.com; ComponentLink2Description: Datasheet; ComponentLink2URL: http://ww1.microchip.com/downloads/en/DeviceDoc/39637c.pdf; ComponentLink3Description: Packaging Specification; ComponentLink3URL: http://ww1.microchip.com/downloads/en/PackagingSpec/00049AW.pdf
footprint SPDIP300-SP28 (DIP, 28-Leads, Row Spacing 7.62mm, Pitch 2.54mm, Body 34.9x6.8mm)
pins: 1 ~{MCLR}/VPP/RE3 (in), 2 RA0/AN0 (io), 3 RA1/AN1 (io), 4 RA2/AN2/VREF- (io), 5 RA3/AN3/VREF+ (io), 6 RA4/T0CKI (io), 7 RA5/AN4/~{SS}/HLVDIN (io), 8 VSS (power), 9 OSC1/CLKI/RA7 (io), 10 OSC2/CLKO/RA6 (io), 11 RC0/T1OSO/T13CKI (io), 12 RC1/T1OSI (io), 13 RC2/CCP1 (io), 14 RC3/SCK/SCL (io), 15 RC4/SDI/SDA (io), 16 RC5/SDO (io), 17 RC6/TX/CK (io), 18 RC7/RX/DT (io), 19 VSS (power), 20 VDD (power), 21 RB0/INT0/AN10 (io), 22 RB1/INT1/AN8 (io), 23 RB2/INT2/CANTX (io), 24 RB3/CANRX (io), 25 RB4/KBI0/AN9 (io), 26 RB5/KBI1/PGM (io), 27 RB6/KBI2/PGC (io), 28 RB7/KBI3/PGD (io)

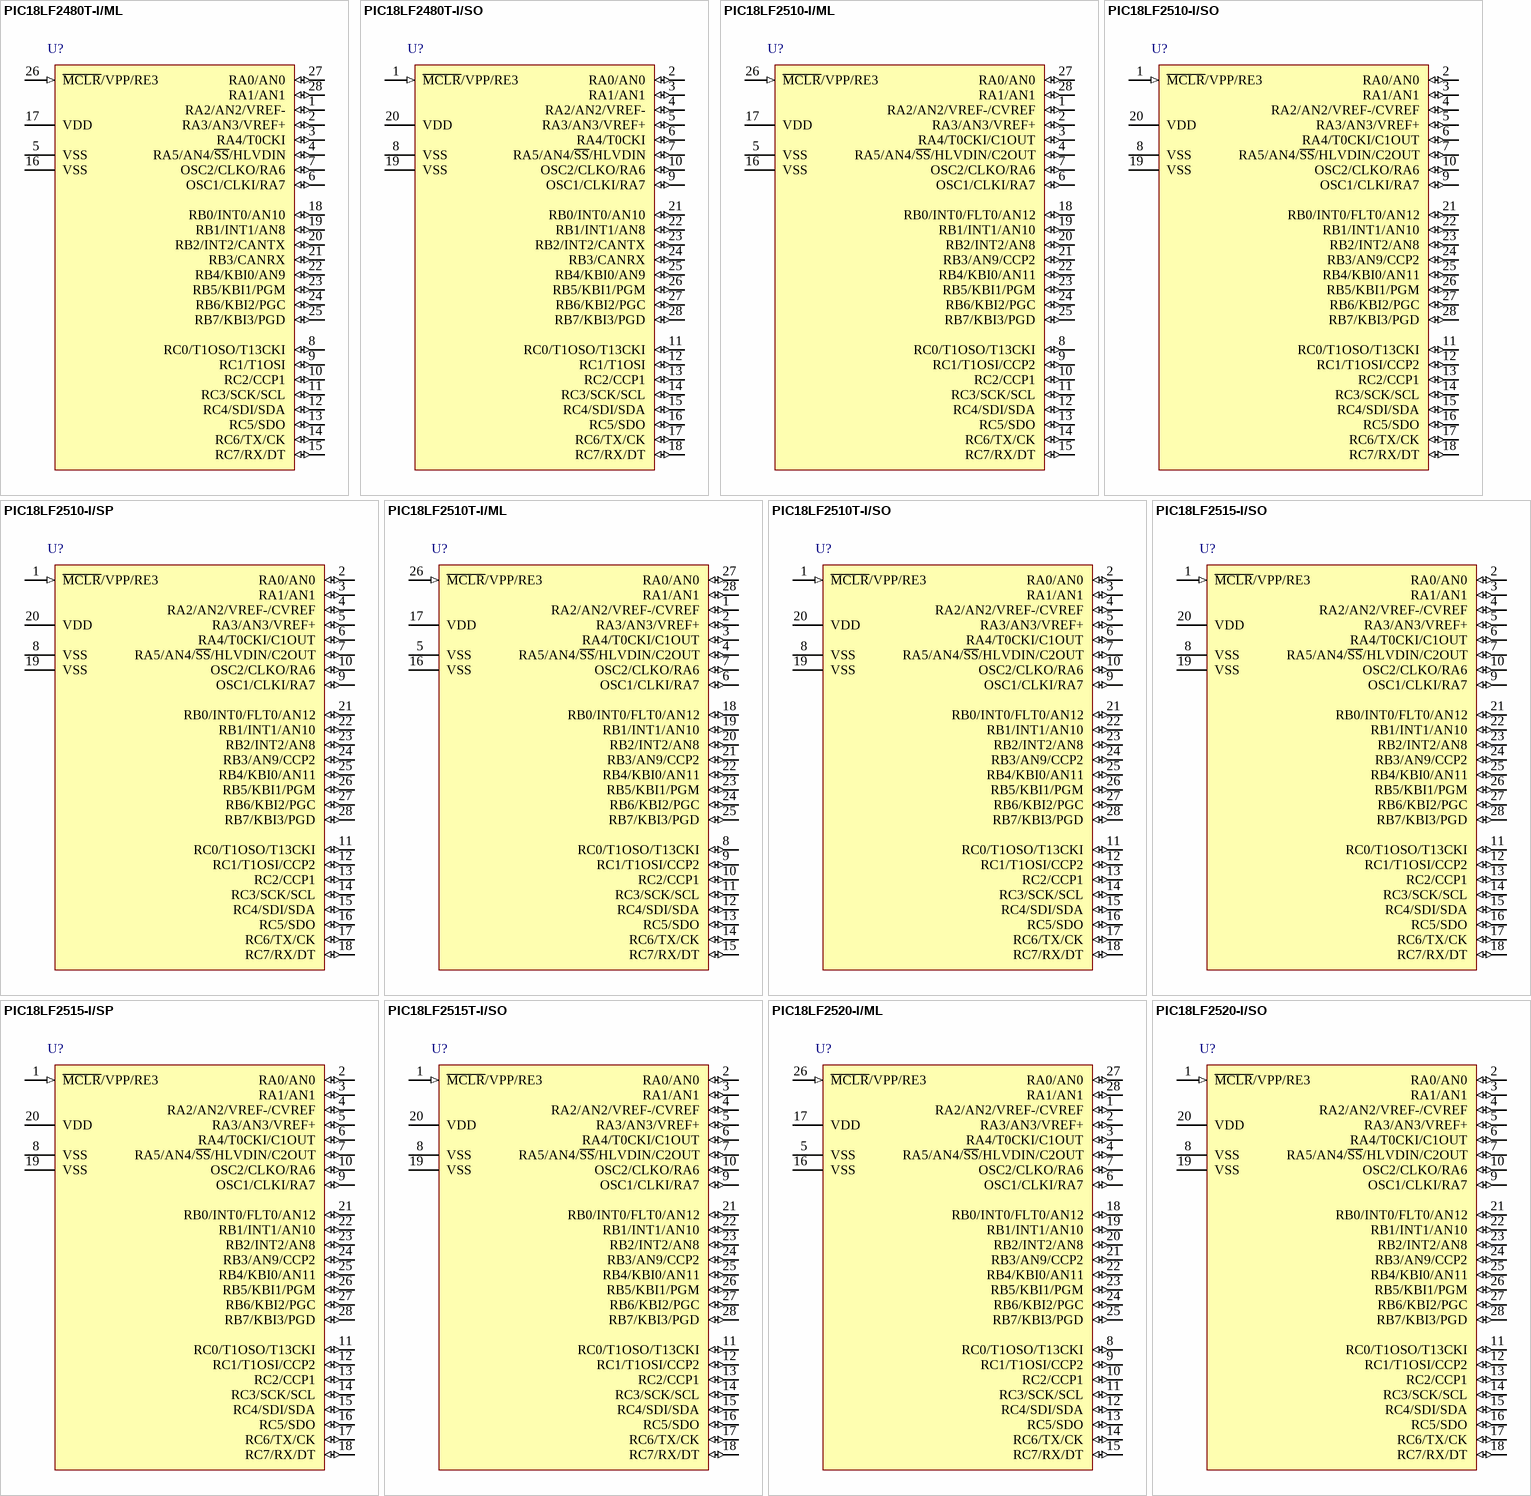
[diagram p97: symbols PIC18LF2480T-I/ML to PIC18LF2520-I/SO]

## PIC18LF2480T-I/ML
designator U?
Enhanced Flash Microcontroller with ECAN Technology, 10-Bit A/D and nanoWatt Technology, 16K Flash, 28-Pin QFN, Industrial Temperature Range, Tape and Reel; Published: 29-Jan-2009; DatasheetVersion: revC, Apr-2007; PackageVersion: revAW, Oct-2008; PackageReference: QFN-ML28; Publisher: Altium Limited; PackageDescription: 28-Lead Plastic Quad Flat, No Lead Package (ML) - 6x6 mm Body [QFN] with 0.55 mm Contact Length; Code_JEDEC: MO-220; Code_IPC: QFN65P600X600-28V; ComponentLink1Description: Manufacturer Link; ComponentLink1URL: http://www.microchip.com; ComponentLink2Description: Datasheet; ComponentLink2URL: http://ww1.microchip.com/downloads/en/DeviceDoc/39637c.pdf; ComponentLink3Description: Packaging Specification; ComponentLink3URL: http://ww1.microchip.com/downloads/en/PackagingSpec/00049AW.pdf
footprint QFN-ML28_N (QFN, 28-Leads, Body 6x6 mm, Pitch 0.65mm, IPC Medium Density)
footprint QFN-ML28_L (QFN, 28-Leads, Body 6x6 mm, Pitch 0.65mm, IPC High Density)
footprint QFN-ML28_M (QFN, 28-Leads, Body 6x6 mm, Pitch 0.65mm, IPC Low Density)
pins: 1 RA2/AN2/VREF- (io), 2 RA3/AN3/VREF+ (io), 3 RA4/T0CKI (io), 4 RA5/AN4/~{SS}/HLVDIN (io), 5 VSS (power), 6 OSC1/CLKI/RA7 (io), 7 OSC2/CLKO/RA6 (io), 8 RC0/T1OSO/T13CKI (io), 9 RC1/T1OSI (io), 10 RC2/CCP1 (io), 11 RC3/SCK/SCL (io), 12 RC4/SDI/SDA (io), 13 RC5/SDO (io), 14 RC6/TX/CK (io), 15 RC7/RX/DT (io), 16 VSS (power), 17 VDD (power), 18 RB0/INT0/AN10 (io), 19 RB1/INT1/AN8 (io), 20 RB2/INT2/CANTX (io), 21 RB3/CANRX (io), 22 RB4/KBI0/AN9 (io), 23 RB5/KBI1/PGM (io), 24 RB6/KBI2/PGC (io), 25 RB7/KBI3/PGD (io), 26 ~{MCLR}/VPP/RE3 (in), 27 RA0/AN0 (io), 28 RA1/AN1 (io)

## PIC18LF2480T-I/SO
designator U?
Enhanced Flash Microcontroller with ECAN Technology, 10-Bit A/D and nanoWatt Technology, 16K Flash, 28-Pin SOIC, Industrial Temperature Range, Tape and Reel; Published: 29-Jan-2009; DatasheetVersion: revC, Apr-2007; PackageVersion: revAW, Oct-2008; PackageReference: SOIC-SO28; Publisher: Altium Limited; PackageDescription: 28-Lead Plastic Small Outline (SO) - Wide 7.50mm Body [SOIC]; Code_JEDEC: MS-013; ComponentLink1Description: Manufacturer Link; ComponentLink1URL: http://www.microchip.com; ComponentLink2Description: Datasheet; ComponentLink2URL: http://ww1.microchip.com/downloads/en/DeviceDoc/39637c.pdf; ComponentLink3Description: Packaging Specification; ComponentLink3URL: http://ww1.microchip.com/downloads/en/PackagingSpec/00049AW.pdf
footprint SOIC-SO28_N (SOIC, 28-Leads, Body 17.9x7.5mm, Pitch 1.27mm, IPC Medium Density)
footprint SOIC-SO28_L (SOIC, 28-Leads, Body 17.9x7.5mm, Pitch 1.27mm, IPC High Density)
footprint SOIC-SO28_M (SOIC, 28-Leads, Body 17.9x7.5mm, Pitch 1.27mm, IPC Low Density)
pins: 1 ~{MCLR}/VPP/RE3 (in), 2 RA0/AN0 (io), 3 RA1/AN1 (io), 4 RA2/AN2/VREF- (io), 5 RA3/AN3/VREF+ (io), 6 RA4/T0CKI (io), 7 RA5/AN4/~{SS}/HLVDIN (io), 8 VSS (power), 9 OSC1/CLKI/RA7 (io), 10 OSC2/CLKO/RA6 (io), 11 RC0/T1OSO/T13CKI (io), 12 RC1/T1OSI (io), 13 RC2/CCP1 (io), 14 RC3/SCK/SCL (io), 15 RC4/SDI/SDA (io), 16 RC5/SDO (io), 17 RC6/TX/CK (io), 18 RC7/RX/DT (io), 19 VSS (power), 20 VDD (power), 21 RB0/INT0/AN10 (io), 22 RB1/INT1/AN8 (io), 23 RB2/INT2/CANTX (io), 24 RB3/CANRX (io), 25 RB4/KBI0/AN9 (io), 26 RB5/KBI1/PGM (io), 27 RB6/KBI2/PGC (io), 28 RB7/KBI3/PGD (io)

## PIC18LF2510-I/ML
designator U?
Flash Microcontroller with 10-Bit A/D and nanoWatt Technology, 32K Flash, 28-Pin QFN, Industrial Temperature Range; Published: 29-Jan-2009; DatasheetVersion: revC, Jan-2007; PackageVersion: revAW, Oct-2008; PackageReference: QFN-ML28; Publisher: Altium Limited; PackageDescription: 28-Lead Plastic Quad Flat, No Lead Package (ML) - 6x6 mm Body [QFN] with 0.55 mm Contact Length; Code_JEDEC: MO-220; Code_IPC: QFN65P600X600-28V; ComponentLink1Description: Manufacturer Link; ComponentLink1URL: http://www.microchip.com; ComponentLink2Description: Datasheet; ComponentLink2URL: http://ww1.microchip.com/downloads/en/DeviceDoc/39636c.pdf; ComponentLink3Description: Packaging Specification; ComponentLink3URL: http://ww1.microchip.com/downloads/en/PackagingSpec/00049AW.pdf
footprint QFN-ML28_N (QFN, 28-Leads, Body 6x6 mm, Pitch 0.65mm, IPC Medium Density)
footprint QFN-ML28_L (QFN, 28-Leads, Body 6x6 mm, Pitch 0.65mm, IPC High Density)
footprint QFN-ML28_M (QFN, 28-Leads, Body 6x6 mm, Pitch 0.65mm, IPC Low Density)
pins: 1 RA2/AN2/VREF-/CVREF (io), 2 RA3/AN3/VREF+ (io), 3 RA4/T0CKI/C1OUT (io), 4 RA5/AN4/~{SS}/HLVDIN/C2OUT (io), 5 VSS (power), 6 OSC1/CLKI/RA7 (io), 7 OSC2/CLKO/RA6 (io), 8 RC0/T1OSO/T13CKI (io), 9 RC1/T1OSI/CCP2 (io), 10 RC2/CCP1 (io), 11 RC3/SCK/SCL (io), 12 RC4/SDI/SDA (io), 13 RC5/SDO (io), 14 RC6/TX/CK (io), 15 RC7/RX/DT (io), 16 VSS (power), 17 VDD (power), 18 RB0/INT0/FLT0/AN12 (io), 19 RB1/INT1/AN10 (io), 20 RB2/INT2/AN8 (io), 21 RB3/AN9/CCP2 (io), 22 RB4/KBI0/AN11 (io), 23 RB5/KBI1/PGM (io), 24 RB6/KBI2/PGC (io), 25 RB7/KBI3/PGD (io), 26 ~{MCLR}/VPP/RE3 (in), 27 RA0/AN0 (io), 28 RA1/AN1 (io)

## PIC18LF2510-I/SO
designator U?
Flash Microcontroller with 10-Bit A/D and nanoWatt Technology, 32K Flash, 28-Pin SOIC, Industrial Temperature Range; Published: 29-Jan-2009; DatasheetVersion: revC, Jan-2007; PackageVersion: revAW, Oct-2008; PackageReference: SOIC-SO28; Publisher: Altium Limited; PackageDescription: 28-Lead Plastic Small Outline (SO) - Wide 7.50mm Body [SOIC]; Code_JEDEC: MS-013; ComponentLink1Description: Manufacturer Link; ComponentLink1URL: http://www.microchip.com; ComponentLink2Description: Datasheet; ComponentLink2URL: http://ww1.microchip.com/downloads/en/DeviceDoc/39636c.pdf; ComponentLink3Description: Packaging Specification; ComponentLink3URL: http://ww1.microchip.com/downloads/en/PackagingSpec/00049AW.pdf
footprint SOIC-SO28_N (SOIC, 28-Leads, Body 17.9x7.5mm, Pitch 1.27mm, IPC Medium Density)
footprint SOIC-SO28_L (SOIC, 28-Leads, Body 17.9x7.5mm, Pitch 1.27mm, IPC High Density)
footprint SOIC-SO28_M (SOIC, 28-Leads, Body 17.9x7.5mm, Pitch 1.27mm, IPC Low Density)
pins: 1 ~{MCLR}/VPP/RE3 (in), 2 RA0/AN0 (io), 3 RA1/AN1 (io), 4 RA2/AN2/VREF-/CVREF (io), 5 RA3/AN3/VREF+ (io), 6 RA4/T0CKI/C1OUT (io), 7 RA5/AN4/~{SS}/HLVDIN/C2OUT (io), 8 VSS (power), 9 OSC1/CLKI/RA7 (io), 10 OSC2/CLKO/RA6 (io), 11 RC0/T1OSO/T13CKI (io), 12 RC1/T1OSI/CCP2 (io), 13 RC2/CCP1 (io), 14 RC3/SCK/SCL (io), 15 RC4/SDI/SDA (io), 16 RC5/SDO (io), 17 RC6/TX/CK (io), 18 RC7/RX/DT (io), 19 VSS (power), 20 VDD (power), 21 RB0/INT0/FLT0/AN12 (io), 22 RB1/INT1/AN10 (io), 23 RB2/INT2/AN8 (io), 24 RB3/AN9/CCP2 (io), 25 RB4/KBI0/AN11 (io), 26 RB5/KBI1/PGM (io), 27 RB6/KBI2/PGC (io), 28 RB7/KBI3/PGD (io)

## PIC18LF2510-I/SP
designator U?
Flash Microcontroller with 10-Bit A/D and nanoWatt Technology, 32K Flash, 28-Pin SPDIP, Industrial Temperature Range; Published: 29-Jan-2009; DatasheetVersion: revC, Jan-2007; PackageVersion: revAW, Oct-2008; PackageReference: SPDIP300-SP28; Publisher: Altium Limited; PackageDescription: 28-Lead Skinny Plastic Dual In-Line (SP) - 300 mil Body [SPDIP]; ComponentLink1Description: Manufacturer Link; ComponentLink1URL: http://www.microchip.com; ComponentLink2Description: Datasheet; ComponentLink2URL: http://ww1.microchip.com/downloads/en/DeviceDoc/39636c.pdf; ComponentLink3Description: Packaging Specification; ComponentLink3URL: http://ww1.microchip.com/downloads/en/PackagingSpec/00049AW.pdf
footprint SPDIP300-SP28 (DIP, 28-Leads, Row Spacing 7.62mm, Pitch 2.54mm, Body 34.9x6.8mm)
pins: 1 ~{MCLR}/VPP/RE3 (in), 2 RA0/AN0 (io), 3 RA1/AN1 (io), 4 RA2/AN2/VREF-/CVREF (io), 5 RA3/AN3/VREF+ (io), 6 RA4/T0CKI/C1OUT (io), 7 RA5/AN4/~{SS}/HLVDIN/C2OUT (io), 8 VSS (power), 9 OSC1/CLKI/RA7 (io), 10 OSC2/CLKO/RA6 (io), 11 RC0/T1OSO/T13CKI (io), 12 RC1/T1OSI/CCP2 (io), 13 RC2/CCP1 (io), 14 RC3/SCK/SCL (io), 15 RC4/SDI/SDA (io), 16 RC5/SDO (io), 17 RC6/TX/CK (io), 18 RC7/RX/DT (io), 19 VSS (power), 20 VDD (power), 21 RB0/INT0/FLT0/AN12 (io), 22 RB1/INT1/AN10 (io), 23 RB2/INT2/AN8 (io), 24 RB3/AN9/CCP2 (io), 25 RB4/KBI0/AN11 (io), 26 RB5/KBI1/PGM (io), 27 RB6/KBI2/PGC (io), 28 RB7/KBI3/PGD (io)

## PIC18LF2510T-I/ML
designator U?
Flash Microcontroller with 10-Bit A/D and nanoWatt Technology, 32K Flash, 28-Pin QFN, Industrial Temperature Range, Tape and Reel; Published: 29-Jan-2009; DatasheetVersion: revC, Jan-2007; PackageVersion: revAW, Oct-2008; PackageReference: QFN-ML28; Publisher: Altium Limited; PackageDescription: 28-Lead Plastic Quad Flat, No Lead Package (ML) - 6x6 mm Body [QFN] with 0.55 mm Contact Length; Code_JEDEC: MO-220; Code_IPC: QFN65P600X600-28V; ComponentLink1Description: Manufacturer Link; ComponentLink1URL: http://www.microchip.com; ComponentLink2Description: Datasheet; ComponentLink2URL: http://ww1.microchip.com/downloads/en/DeviceDoc/39636c.pdf; ComponentLink3Description: Packaging Specification; ComponentLink3URL: http://ww1.microchip.com/downloads/en/PackagingSpec/00049AW.pdf
footprint QFN-ML28_N (QFN, 28-Leads, Body 6x6 mm, Pitch 0.65mm, IPC Medium Density)
footprint QFN-ML28_L (QFN, 28-Leads, Body 6x6 mm, Pitch 0.65mm, IPC High Density)
footprint QFN-ML28_M (QFN, 28-Leads, Body 6x6 mm, Pitch 0.65mm, IPC Low Density)
pins: 1 RA2/AN2/VREF-/CVREF (io), 2 RA3/AN3/VREF+ (io), 3 RA4/T0CKI/C1OUT (io), 4 RA5/AN4/~{SS}/HLVDIN/C2OUT (io), 5 VSS (power), 6 OSC1/CLKI/RA7 (io), 7 OSC2/CLKO/RA6 (io), 8 RC0/T1OSO/T13CKI (io), 9 RC1/T1OSI/CCP2 (io), 10 RC2/CCP1 (io), 11 RC3/SCK/SCL (io), 12 RC4/SDI/SDA (io), 13 RC5/SDO (io), 14 RC6/TX/CK (io), 15 RC7/RX/DT (io), 16 VSS (power), 17 VDD (power), 18 RB0/INT0/FLT0/AN12 (io), 19 RB1/INT1/AN10 (io), 20 RB2/INT2/AN8 (io), 21 RB3/AN9/CCP2 (io), 22 RB4/KBI0/AN11 (io), 23 RB5/KBI1/PGM (io), 24 RB6/KBI2/PGC (io), 25 RB7/KBI3/PGD (io), 26 ~{MCLR}/VPP/RE3 (in), 27 RA0/AN0 (io), 28 RA1/AN1 (io)

## PIC18LF2510T-I/SO
designator U?
Flash Microcontroller with 10-Bit A/D and nanoWatt Technology, 32K Flash, 28-Pin SOIC, Industrial Temperature Range, Tape and Reel; Published: 29-Jan-2009; DatasheetVersion: revC, Jan-2007; PackageVersion: revAW, Oct-2008; PackageReference: SOIC-SO28; Publisher: Altium Limited; PackageDescription: 28-Lead Plastic Small Outline (SO) - Wide 7.50mm Body [SOIC]; Code_JEDEC: MS-013; ComponentLink1Description: Manufacturer Link; ComponentLink1URL: http://www.microchip.com; ComponentLink2Description: Datasheet; ComponentLink2URL: http://ww1.microchip.com/downloads/en/DeviceDoc/39636c.pdf; ComponentLink3Description: Packaging Specification; ComponentLink3URL: http://ww1.microchip.com/downloads/en/PackagingSpec/00049AW.pdf
footprint SOIC-SO28_N (SOIC, 28-Leads, Body 17.9x7.5mm, Pitch 1.27mm, IPC Medium Density)
footprint SOIC-SO28_L (SOIC, 28-Leads, Body 17.9x7.5mm, Pitch 1.27mm, IPC High Density)
footprint SOIC-SO28_M (SOIC, 28-Leads, Body 17.9x7.5mm, Pitch 1.27mm, IPC Low Density)
pins: 1 ~{MCLR}/VPP/RE3 (in), 2 RA0/AN0 (io), 3 RA1/AN1 (io), 4 RA2/AN2/VREF-/CVREF (io), 5 RA3/AN3/VREF+ (io), 6 RA4/T0CKI/C1OUT (io), 7 RA5/AN4/~{SS}/HLVDIN/C2OUT (io), 8 VSS (power), 9 OSC1/CLKI/RA7 (io), 10 OSC2/CLKO/RA6 (io), 11 RC0/T1OSO/T13CKI (io), 12 RC1/T1OSI/CCP2 (io), 13 RC2/CCP1 (io), 14 RC3/SCK/SCL (io), 15 RC4/SDI/SDA (io), 16 RC5/SDO (io), 17 RC6/TX/CK (io), 18 RC7/RX/DT (io), 19 VSS (power), 20 VDD (power), 21 RB0/INT0/FLT0/AN12 (io), 22 RB1/INT1/AN10 (io), 23 RB2/INT2/AN8 (io), 24 RB3/AN9/CCP2 (io), 25 RB4/KBI0/AN11 (io), 26 RB5/KBI1/PGM (io), 27 RB6/KBI2/PGC (io), 28 RB7/KBI3/PGD (io)

## PIC18LF2515-I/SO
designator U?
Flash Microcontroller with 10-Bit A/D and nanoWatt Technology, 48K Flash, 28-Pin SOIC, Industrial Temperature Range; Published: 29-Jan-2009; DatasheetVersion: revC, Jan-2007; PackageVersion: revAW, Oct-2008; PackageReference: SOIC-SO28; Publisher: Altium Limited; PackageDescription: 28-Lead Plastic Small Outline (SO) - Wide 7.50mm Body [SOIC]; Code_JEDEC: MS-013; ComponentLink1Description: Manufacturer Link; ComponentLink1URL: http://www.microchip.com; ComponentLink2Description: Datasheet; ComponentLink2URL: http://ww1.microchip.com/downloads/en/DeviceDoc/39636c.pdf; ComponentLink3Description: Packaging Specification; ComponentLink3URL: http://ww1.microchip.com/downloads/en/PackagingSpec/00049AW.pdf
footprint SOIC-SO28_N (SOIC, 28-Leads, Body 17.9x7.5mm, Pitch 1.27mm, IPC Medium Density)
footprint SOIC-SO28_L (SOIC, 28-Leads, Body 17.9x7.5mm, Pitch 1.27mm, IPC High Density)
footprint SOIC-SO28_M (SOIC, 28-Leads, Body 17.9x7.5mm, Pitch 1.27mm, IPC Low Density)
pins: 1 ~{MCLR}/VPP/RE3 (in), 2 RA0/AN0 (io), 3 RA1/AN1 (io), 4 RA2/AN2/VREF-/CVREF (io), 5 RA3/AN3/VREF+ (io), 6 RA4/T0CKI/C1OUT (io), 7 RA5/AN4/~{SS}/HLVDIN/C2OUT (io), 8 VSS (power), 9 OSC1/CLKI/RA7 (io), 10 OSC2/CLKO/RA6 (io), 11 RC0/T1OSO/T13CKI (io), 12 RC1/T1OSI/CCP2 (io), 13 RC2/CCP1 (io), 14 RC3/SCK/SCL (io), 15 RC4/SDI/SDA (io), 16 RC5/SDO (io), 17 RC6/TX/CK (io), 18 RC7/RX/DT (io), 19 VSS (power), 20 VDD (power), 21 RB0/INT0/FLT0/AN12 (io), 22 RB1/INT1/AN10 (io), 23 RB2/INT2/AN8 (io), 24 RB3/AN9/CCP2 (io), 25 RB4/KBI0/AN11 (io), 26 RB5/KBI1/PGM (io), 27 RB6/KBI2/PGC (io), 28 RB7/KBI3/PGD (io)

## PIC18LF2515-I/SP
designator U?
Flash Microcontroller with 10-Bit A/D and nanoWatt Technology, 48K Flash, 28-Pin SPDIP, Industrial Temperature Range; Published: 29-Jan-2009; DatasheetVersion: revC, Jan-2007; PackageVersion: revAW, Oct-2008; PackageReference: SPDIP300-SP28; Publisher: Altium Limited; PackageDescription: 28-Lead Skinny Plastic Dual In-Line (SP) - 300 mil Body [SPDIP]; ComponentLink1Description: Manufacturer Link; ComponentLink1URL: http://www.microchip.com; ComponentLink2Description: Datasheet; ComponentLink2URL: http://ww1.microchip.com/downloads/en/DeviceDoc/39636c.pdf; ComponentLink3Description: Packaging Specification; ComponentLink3URL: http://ww1.microchip.com/downloads/en/PackagingSpec/00049AW.pdf
footprint SPDIP300-SP28 (DIP, 28-Leads, Row Spacing 7.62mm, Pitch 2.54mm, Body 34.9x6.8mm)
pins: 1 ~{MCLR}/VPP/RE3 (in), 2 RA0/AN0 (io), 3 RA1/AN1 (io), 4 RA2/AN2/VREF-/CVREF (io), 5 RA3/AN3/VREF+ (io), 6 RA4/T0CKI/C1OUT (io), 7 RA5/AN4/~{SS}/HLVDIN/C2OUT (io), 8 VSS (power), 9 OSC1/CLKI/RA7 (io), 10 OSC2/CLKO/RA6 (io), 11 RC0/T1OSO/T13CKI (io), 12 RC1/T1OSI/CCP2 (io), 13 RC2/CCP1 (io), 14 RC3/SCK/SCL (io), 15 RC4/SDI/SDA (io), 16 RC5/SDO (io), 17 RC6/TX/CK (io), 18 RC7/RX/DT (io), 19 VSS (power), 20 VDD (power), 21 RB0/INT0/FLT0/AN12 (io), 22 RB1/INT1/AN10 (io), 23 RB2/INT2/AN8 (io), 24 RB3/AN9/CCP2 (io), 25 RB4/KBI0/AN11 (io), 26 RB5/KBI1/PGM (io), 27 RB6/KBI2/PGC (io), 28 RB7/KBI3/PGD (io)

## PIC18LF2515T-I/SO
designator U?
Flash Microcontroller with 10-Bit A/D and nanoWatt Technology, 48K Flash, 28-Pin SOIC, Industrial Temperature Range, Tape and Reel; Published: 29-Jan-2009; DatasheetVersion: revC, Jan-2007; PackageVersion: revAW, Oct-2008; PackageReference: SOIC-SO28; Publisher: Altium Limited; PackageDescription: 28-Lead Plastic Small Outline (SO) - Wide 7.50mm Body [SOIC]; Code_JEDEC: MS-013; ComponentLink1Description: Manufacturer Link; ComponentLink1URL: http://www.microchip.com; ComponentLink2Description: Datasheet; ComponentLink2URL: http://ww1.microchip.com/downloads/en/DeviceDoc/39636c.pdf; ComponentLink3Description: Packaging Specification; ComponentLink3URL: http://ww1.microchip.com/downloads/en/PackagingSpec/00049AW.pdf
footprint SOIC-SO28_N (SOIC, 28-Leads, Body 17.9x7.5mm, Pitch 1.27mm, IPC Medium Density)
footprint SOIC-SO28_L (SOIC, 28-Leads, Body 17.9x7.5mm, Pitch 1.27mm, IPC High Density)
footprint SOIC-SO28_M (SOIC, 28-Leads, Body 17.9x7.5mm, Pitch 1.27mm, IPC Low Density)
pins: 1 ~{MCLR}/VPP/RE3 (in), 2 RA0/AN0 (io), 3 RA1/AN1 (io), 4 RA2/AN2/VREF-/CVREF (io), 5 RA3/AN3/VREF+ (io), 6 RA4/T0CKI/C1OUT (io), 7 RA5/AN4/~{SS}/HLVDIN/C2OUT (io), 8 VSS (power), 9 OSC1/CLKI/RA7 (io), 10 OSC2/CLKO/RA6 (io), 11 RC0/T1OSO/T13CKI (io), 12 RC1/T1OSI/CCP2 (io), 13 RC2/CCP1 (io), 14 RC3/SCK/SCL (io), 15 RC4/SDI/SDA (io), 16 RC5/SDO (io), 17 RC6/TX/CK (io), 18 RC7/RX/DT (io), 19 VSS (power), 20 VDD (power), 21 RB0/INT0/FLT0/AN12 (io), 22 RB1/INT1/AN10 (io), 23 RB2/INT2/AN8 (io), 24 RB3/AN9/CCP2 (io), 25 RB4/KBI0/AN11 (io), 26 RB5/KBI1/PGM (io), 27 RB6/KBI2/PGC (io), 28 RB7/KBI3/PGD (io)

## PIC18LF2520-I/ML
designator U?
Enhanced Flash Microcontroller with 10-Bit A/D and nanoWatt Technology, 32K Flash, 28-Pin QFN, Industrial Temperature Range; Published: 29-Jan-2009; DatasheetVersion: revD, Jul-2007; PackageVersion: revAW, Oct-2008; PackageReference: QFN-ML28; Publisher: Altium Limited; PackageDescription: 28-Lead Plastic Quad Flat, No Lead Package (ML) - 6x6 mm Body [QFN] with 0.55 mm Contact Length; Code_JEDEC: MO-220; Code_IPC: QFN65P600X600-28V; ComponentLink1Description: Manufacturer Link; ComponentLink1URL: http://www.microchip.com; ComponentLink2Description: Datasheet; ComponentLink2URL: http://ww1.microchip.com/downloads/en/DeviceDoc/39631D.pdf; ComponentLink3Description: Packaging Specification; ComponentLink3URL: http://ww1.microchip.com/downloads/en/PackagingSpec/00049AW.pdf
footprint QFN-ML28_N (QFN, 28-Leads, Body 6x6 mm, Pitch 0.65mm, IPC Medium Density)
footprint QFN-ML28_L (QFN, 28-Leads, Body 6x6 mm, Pitch 0.65mm, IPC High Density)
footprint QFN-ML28_M (QFN, 28-Leads, Body 6x6 mm, Pitch 0.65mm, IPC Low Density)
pins: 1 RA2/AN2/VREF-/CVREF (io), 2 RA3/AN3/VREF+ (io), 3 RA4/T0CKI/C1OUT (io), 4 RA5/AN4/~{SS}/HLVDIN/C2OUT (io), 5 VSS (power), 6 OSC1/CLKI/RA7 (io), 7 OSC2/CLKO/RA6 (io), 8 RC0/T1OSO/T13CKI (io), 9 RC1/T1OSI/CCP2 (io), 10 RC2/CCP1 (io), 11 RC3/SCK/SCL (io), 12 RC4/SDI/SDA (io), 13 RC5/SDO (io), 14 RC6/TX/CK (io), 15 RC7/RX/DT (io), 16 VSS (power), 17 VDD (power), 18 RB0/INT0/FLT0/AN12 (io), 19 RB1/INT1/AN10 (io), 20 RB2/INT2/AN8 (io), 21 RB3/AN9/CCP2 (io), 22 RB4/KBI0/AN11 (io), 23 RB5/KBI1/PGM (io), 24 RB6/KBI2/PGC (io), 25 RB7/KBI3/PGD (io), 26 ~{MCLR}/VPP/RE3 (in), 27 RA0/AN0 (io), 28 RA1/AN1 (io)